# EAGLE library part 2516-6002UB (library 3M_By_element14_Batch_1)
Four-Wall Header
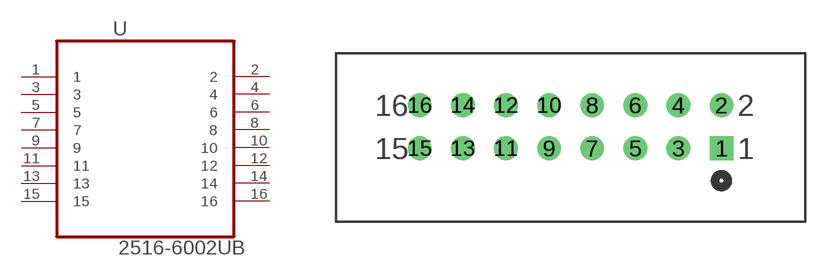
[diagram p20: symbol with the pads of 3M_2516-6002UB; footprint 3M_2516-6002UB]

Designator prefix U

## 2516-6002UB (MPN: 2516-6002UB; OC_FARNELL: 1924102; OC_NEWARK: 93F1928; PACKAGE: Header-16Pin; SUPPLIER: 3M)  [3M_2516-6002UB]
1  1  pas
2  2  pas
3  3  pas
4  4  pas
5  5  pas
6  6  pas
7  7  pas
8  8  pas
9  9  pas
10  10  pas
11  11  pas
12  12  pas
13  13  pas
14  14  pas
15  15  pas
16  16  pas

## Footprint 3M_2516-6002UB (pad centres in mm)
drill 0.889 square: 1 17.78,-2.54
drill 0.889: 2 17.78,0; 3 15.24,-2.54; 4 15.24,0; 5 12.7,-2.54; 6 12.7,0; 7 10.16,-2.54; 8 10.16,0; 9 7.62,-2.54; 10 7.62,0; 11 5.08,-2.54; 12 5.08,0; 13 2.54,-2.54; 14 2.54,0; 15 0,-2.54; 16 0,0